# Altium footprint library INF-PG-TO252-3-11_A_N.PcbLib: 1 footprints
Each footprint in its own frame and in the unit in brackets; x right, y up, seen from the top. Pads: shape width x height; smd on the part's side, far side on the other; paste and mask are expansions set on the pad; w line width, h text height; cw(c..) or ccw(c..) is an arc to the next point about the centre after c.
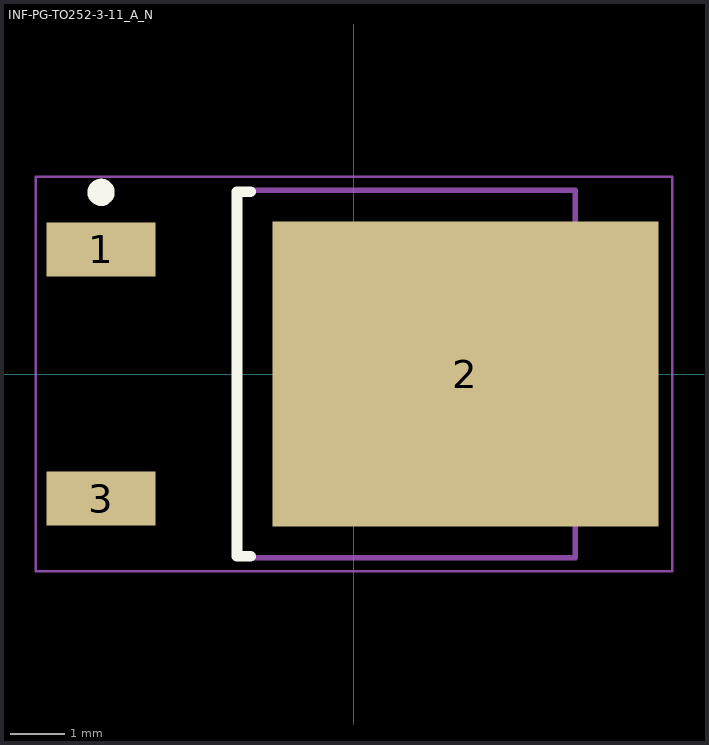
[diagram p0: the footprint, top view; thin cyan lines are the x and y axes]

## INF-PG-TO252-3-11_A_N [mm] "DPAK, 3-Leads, Body 6.57x6.1mm, Pitch 2.29mm, IPC Medium Density"
height 2.41
pads (3):
  rect 2x1 smd: 1(-4.65,2.29) 3(-4.65,-2.29)
  rect 7.1x5.6 smd: 2(2.05,0)
Top Overlay:
  circle w0.25: c-4.65,3.34 r0.125
  lines w0.2: -1.9,-3.35 -2.15,-3.35 -2.15,3.35 -1.9,3.35
Mechanical 13:
  lines w0.1: -2.15,-3.375 4.07,-3.375 4.07,3.375 -2.15,3.375 -2.15,-3.375
Mechanical 15:
  lines w0.05: -5.85,-3.625 5.85,-3.625 5.85,3.625 -5.85,3.625 -5.85,-3.625
  lines w0.1: -0.5,0 0.5,0 ; 0,-0.5 0,0.5
3D body: height 2.41, standoff 0, extent -2.15,-3.375 4.07,3.375